# Altium integrated library QRE1113.IntLib: 1 symbol
Pins are listed as number, name and electrical type; pins without a type are passive.

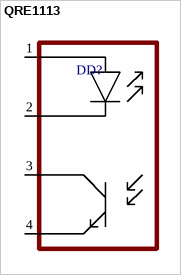
[diagram p0: symbol QRE1113]

## QRE1113
designator DD?
footprint QRE1113
pins: 1 ANODE, 2 CATHODE, 3, 4